# EAGLE library part DS8641 (library dec-con)
Quad Bus Tranceiver
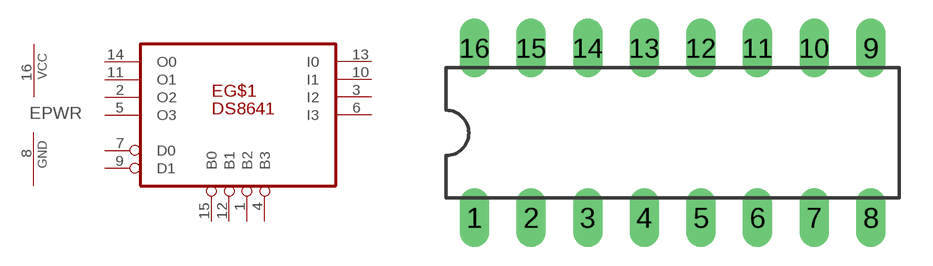
[diagram p61: symbol with the pads of DIL16; footprint DIL16]

Designator prefix E; gates G$1=DS8641 PWR=PWRN

## DS8641N  [DIL16]
1  G$1:B2
2  G$1:O2  in
3  G$1:I2  out
4  G$1:B3
5  G$1:O3  in
6  G$1:I3  out
7  G$1:D0  in
8  PWR:GND  pwr
9  G$1:D1  in
10  G$1:I1  out
11  G$1:O1  in
12  G$1:B1
13  G$1:I0  out
14  G$1:O0  in
15  G$1:B0
16  PWR:VCC  pwr

## Footprint DIL16 (pad centres in mm)
Dual In Line Package
drill 0.813 long: 1 -8.89,-3.81; 2 -6.35,-3.81; 3 -3.81,-3.81; 4 -1.27,-3.81; 5 1.27,-3.81; 6 3.81,-3.81; 7 6.35,-3.81; 8 8.89,-3.81; 9 8.89,3.81; 10 6.35,3.81; 11 3.81,3.81; 12 1.27,3.81; 13 -1.27,3.81; 14 -3.81,3.81; 15 -6.35,3.81; 16 -8.89,3.81